# EAGLE library part TEMPLATE_MP1496DJ (library openautopihat)
High-Efficiency,2A，16V,500kHz Synchronous,Step-Down Converter http://html.alldatasheetcn.com/html-pdf/551584/MPS/MP1496DJ/55/1/MP1496DJ.html
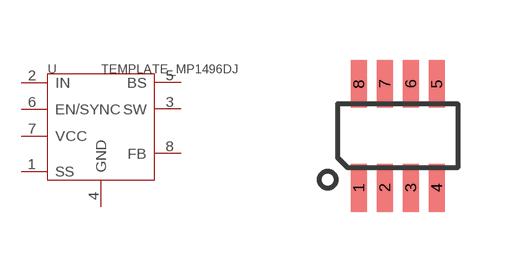
[diagram p9: symbol with the pads of TEMPLATE_TSOT23-8; footprint TEMPLATE_TSOT23-8]

Designator prefix U

## TEMPLATE_MP1496DJ  [TEMPLATE_TSOT23-8]
1  SS
2  IN
3  SW
4  GND
5  BS
6  EN/SYNC
7  VCC
8  FB

## Footprint TEMPLATE_TSOT23-8 (pad centres in mm)
smd 0.4 x 1.2: 1 -0.975,-1.3; 2 -0.325,-1.3; 3 0.325,-1.3; 4 0.975,-1.3; 5 0.975,1.3; 6 0.325,1.3; 7 -0.325,1.3; 8 -0.975,1.3